# Altium schematic symbol library RemoteQuarium_pcb_design.SchLib: 14 symbols
Pins are listed as number, name and electrical type; pins without a type are passive.

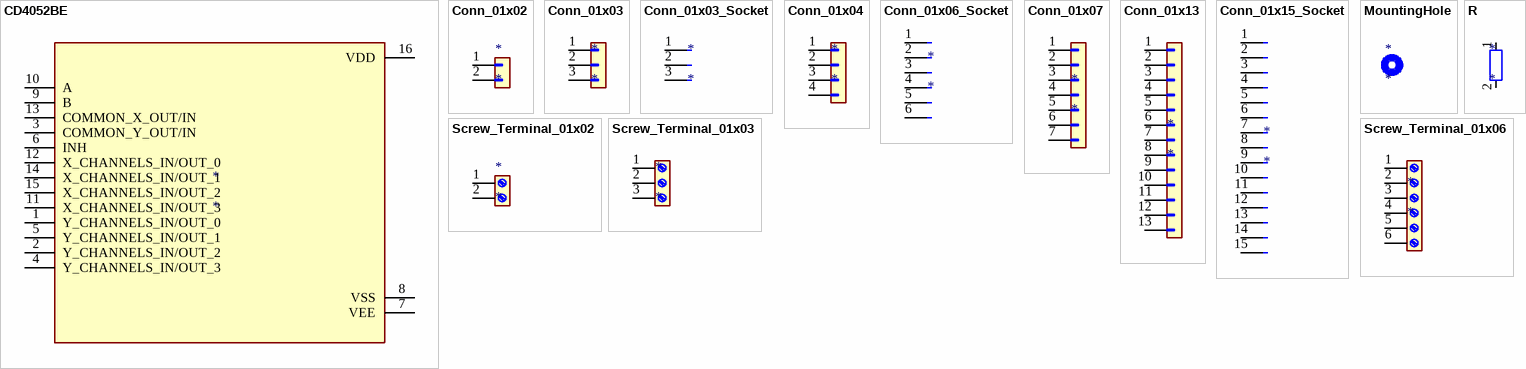
[diagram p0: symbols CD4052BE to Screw_Terminal_01x06]

## CD4052BE
designator *
pins: 1 Y_CHANNELS_IN/OUT_0, 2 Y_CHANNELS_IN/OUT_2, 3 COMMON_Y_OUT/IN, 4 Y_CHANNELS_IN/OUT_3, 5 Y_CHANNELS_IN/OUT_1, 6 INH, 7 VEE, 8 VSS, 9 B, 10 A, 11 X_CHANNELS_IN/OUT_3, 12 X_CHANNELS_IN/OUT_0, 13 COMMON_X_OUT/IN, 14 X_CHANNELS_IN/OUT_1, 15 X_CHANNELS_IN/OUT_2, 16 VDD

## Conn_01x02
designator *
pins: 1 Pin_1, 2 Pin_2

## Conn_01x03
designator *
pins: 1 Pin_1, 2 Pin_2, 3 Pin_3

## Conn_01x03_Socket
designator *
pins: 1 Pin_1, 2 Pin_2, 3 Pin_3

## Conn_01x04
designator *
pins: 1 Pin_1, 2 Pin_2, 3 Pin_3, 4 Pin_4

## Conn_01x06_Socket
designator *
pins: 1 Pin_1, 2 Pin_2, 3 Pin_3, 4 Pin_4, 5 Pin_5, 6 Pin_6

## Conn_01x07
designator *
pins: 1 Pin_1, 2 Pin_2, 3 Pin_3, 4 Pin_4, 5 Pin_5, 6 Pin_6, 7 Pin_7

## Conn_01x13
designator *
pins: 1 Pin_1, 2 Pin_2, 3 Pin_3, 4 Pin_4, 5 Pin_5, 6 Pin_6, 7 Pin_7, 8 Pin_8, 9 Pin_9, 10 Pin_10, 11 Pin_11, 12 Pin_12, 13 Pin_13

## Conn_01x15_Socket
designator *
pins: 1 Pin_1, 2 Pin_2, 3 Pin_3, 4 Pin_4, 5 Pin_5, 6 Pin_6, 7 Pin_7, 8 Pin_8, 9 Pin_9, 10 Pin_10, 11 Pin_11, 12 Pin_12, 13 Pin_13, 14 Pin_14, 15 Pin_15

## MountingHole
designator *

## R
designator *
pins: 1, 2

## Screw_Terminal_01x02
designator *
pins: 1 Pin_1, 2 Pin_2

## Screw_Terminal_01x03
designator *
pins: 1 Pin_1, 2 Pin_2, 3 Pin_3

## Screw_Terminal_01x06
designator *
pins: 1 Pin_1, 2 Pin_2, 3 Pin_3, 4 Pin_4, 5 Pin_5, 6 Pin_6